# EAGLE library part MAX44285* (library Maxim Integrated)
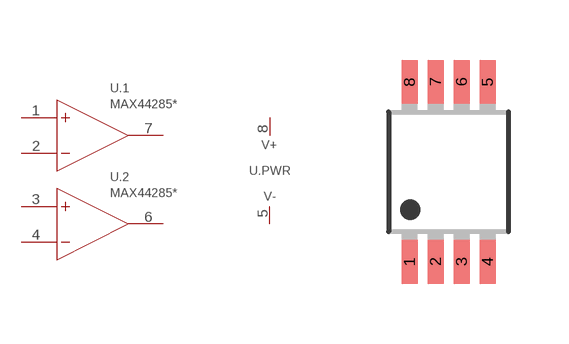
[diagram p5: symbol with the pads of MSOP8; footprint MSOP8]

Designator prefix U; gates .1=OP_AMP .2=OP_AMP .PWR=OP_AMP_PWR

## MAX44285FAUA+, MAX44285HAUA+, MAX44285LAUA+, MAX44285TAUA+  [MSOP8]
1  .1:+IN  in
2  .1:-IN  in
3  .2:+IN  in
4  .2:-IN  in
5  .PWR:V-  pwr
6  .2:OUT  out
7  .1:OUT  out
8  .PWR:V+  pwr

## Footprint MSOP8 (pad centres in mm)
smd 0.4 x 1.1: 1 -0.975,-2.25; 2 -0.325,-2.25; 3 0.325,-2.25; 4 0.975,-2.25; 5 0.975,2.25; 6 0.325,2.25; 7 -0.325,2.25; 8 -0.975,2.25